# EAGLE library part 625040230621 (library Wire-to-Board (rev18a))
WR-BHD 2.00mm Male SMT Box Header With Lever, 40 pins
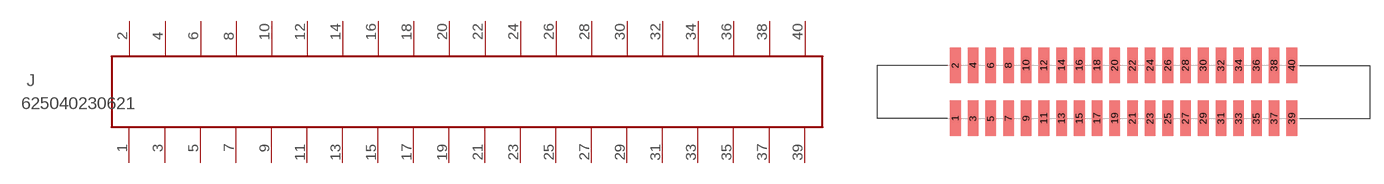
[diagram p254: symbol with the pads of 625040230621; footprint 625040230621]

Designator prefix J

## 625040230621  [625040230621]
1  1  pas
2  2  pas
3  3  pas
4  4  pas
5  5  pas
6  6  pas
7  7  pas
8  8  pas
9  9  pas
10  10  pas
11  11  pas
12  12  pas
13  13  pas
14  14  pas
15  15  pas
16  16  pas
17  17  pas
18  18  pas
19  19  pas
20  20  pas
21  21  pas
22  22  pas
23  23  pas
24  24  pas
25  25  pas
26  26  pas
27  27  pas
28  28  pas
29  29  pas
30  30  pas
31  31  pas
32  32  pas
33  33  pas
34  34  pas
35  35  pas
36  36  pas
37  37  pas
38  38  pas
39  39  pas
40  40  pas

## Footprint 625040230621 (pad centres in mm)
WR-BHD-2.00mm Male SMT Box Header With Lever,40 pins
smd 1.2 x 4: 1 -19,-3; 2 -19,3; 3 -17,-3; 4 -17,3; 5 -15,-3; 6 -15,3; 7 -13,-3; 8 -13,3; 9 -11,-3; 10 -11,3; 11 -9,-3; 12 -9,3; 13 -7,-3; 14 -7,3; 15 -5,-3; 16 -5,3; 17 -3,-3; 18 -3,3; 19 -1,-3; 20 -1,3; 21 1,-3; 22 1,3; 23 3,-3; 24 3,3; 25 5,-3; 26 5,3; 27 7,-3; 28 7,3; 29 9,-3; 30 9,3; 31 11,-3; 32 11,3; 33 13,-3; 34 13,3; 35 15,-3; 36 15,3; 37 17,-3; 38 17,3; 39 19,-3; 40 19,3